# Altium footprint library ProjCLib.PcbLib: 31 footprints (part 2 of 2)
Each footprint in its own frame and in the unit in brackets; x right, y up, seen from the top. Pads: shape width x height; smd on the part's side, far side on the other; paste and mask are expansions set on the pad; w line width, h text height; cw(c..) or ccw(c..) is an arc to the next point about the centre after c.
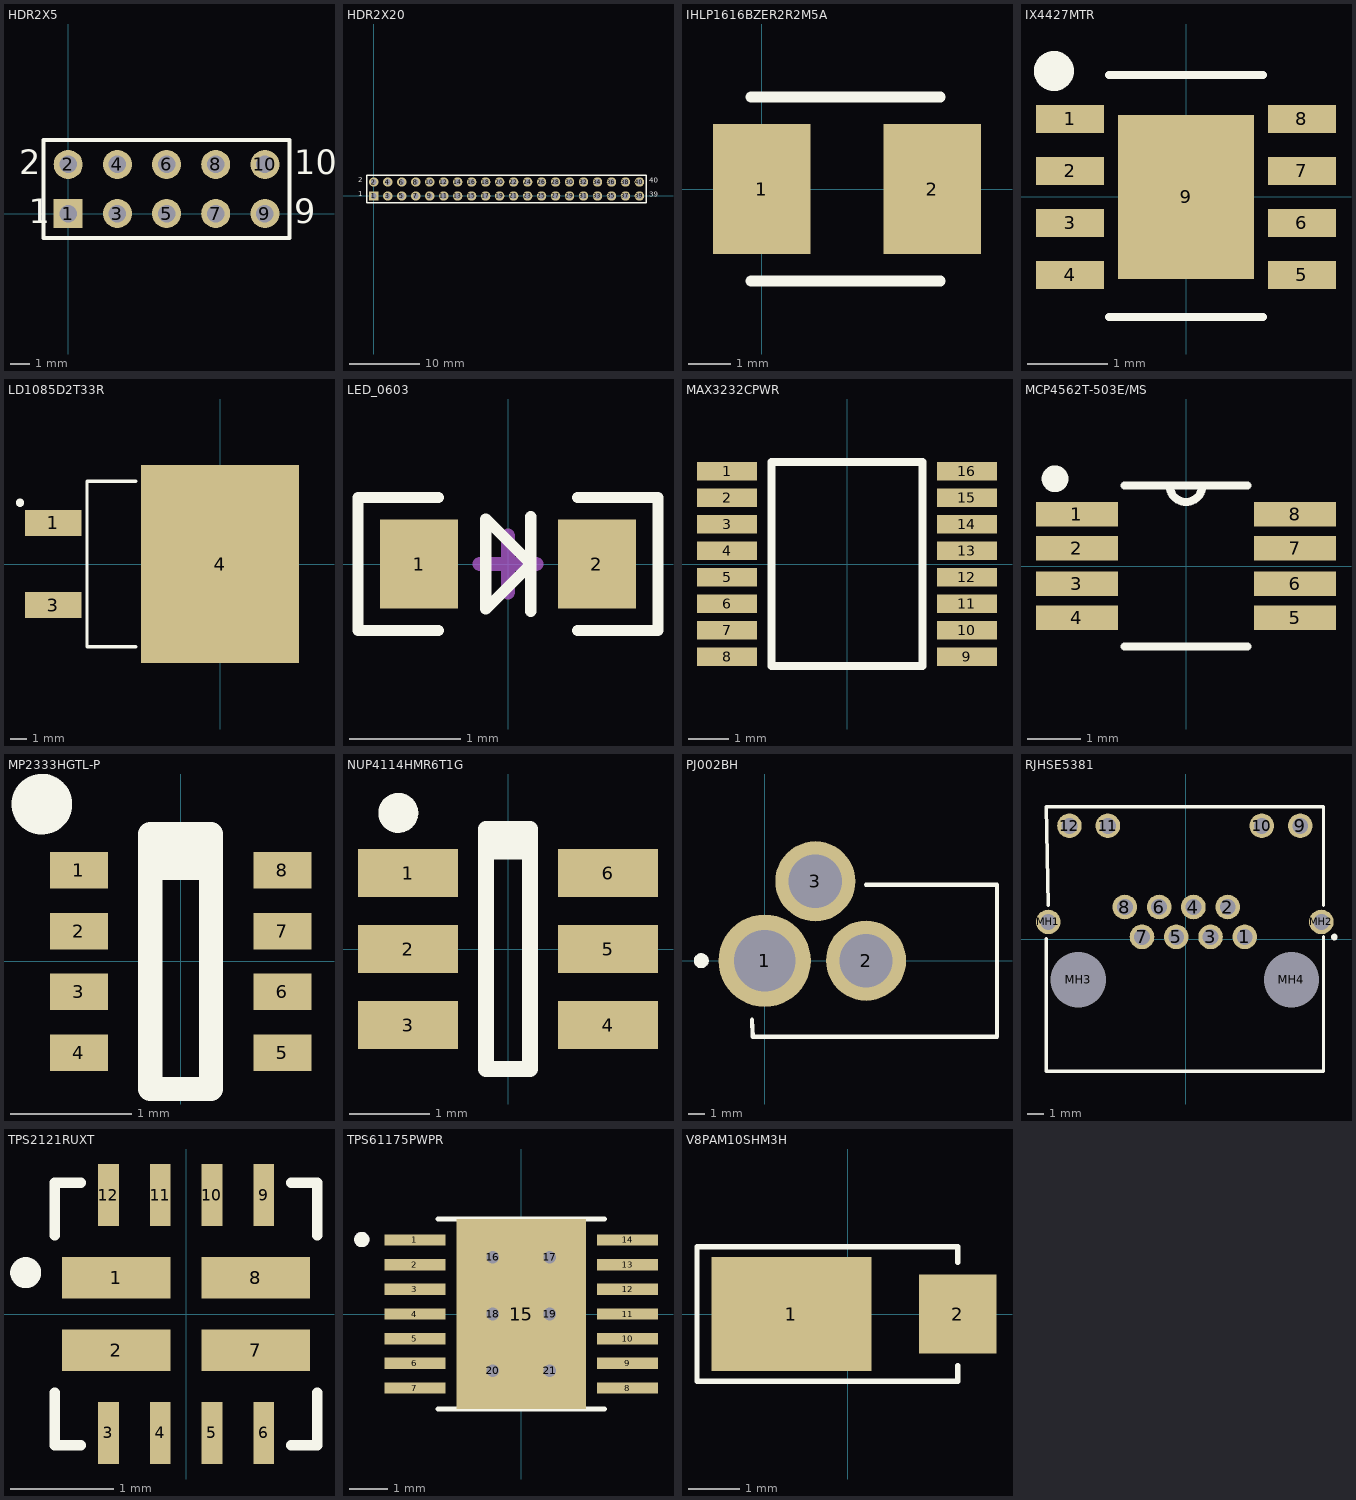
[diagram p1: the footprints below, top view; thin cyan lines are the x and y axes]

## HDR2X5 [mm] "Connector; Header; 5x2 Position"
pads (10):
  rect 1.5x1.5 hole 0.9: 1(0,0)
  round 1.5 hole 0.9: 2(0,2.54) 3(2.54,0) 4(2.54,2.54) 5(5.08,0) 6(5.08,2.54) 7(7.62,0) 8(7.62,2.54) 9(10.16,0) 10(10.16,2.54)
Top Overlay:
  lines w0.2: -1.27,-1.27 11.43,-1.27 11.43,3.81 -1.27,3.81 -1.27,-1.27
  text "10" at 11.684,2.032 h1.27
  text "9" at 11.684,-0.508 h1.27
  text "1" at -2.032,-0.508 h1.27
  text "2" at -2.54,2.032 h1.27

## HDR2X20 [mm] "Connector; Header; 20x2 Position"
pads (40):
  rect 1.35x1.35 hole 0.85: 1(0,0)
  round 1.35 hole 0.85: 2(0,2) 3(2,0) 4(2,2) 5(4,0) 6(4,2) 7(6,0) 8(6,2) 9(8,0) 10(8,2) 11(10,0) 12(10,2) 13(12,0) 14(12,2) 15(14,0) 16(14,2) 17(16,0) 18(16,2) 19(18,0) 20(18,2) 21(20,0) 22(20,2) 23(22,0) 24(22,2) 25(24,0) 26(24,2) 27(26,0) 28(26,2) 29(28,0) 30(28,2) 31(30,0) 32(30,2) 33(32,0) 34(32,2) 35(34,0) 36(34,2) 37(36,0) 38(36,2) 39(38,0) 40(38,2)
Top Overlay:
  lines w0.2: -1,-1 39,-1 39,3 -1,3 -1,-1
  text "1" at -2.257,-0.335 h1.27
  text "2" at -2.257,1.675 h1.27
  text "40" at 39.386,1.573 h1.27
  text "39" at 39.386,-0.388 h1.27

## IHLP1616BZER2R2M5A [mil]
pads (2):
  rect 90x120 smd: 1(0,0) 2(157.48,0)
Top Overlay:
  lines w10: -10,-85 165,-85 ; -10,85 165,85

## IX4427MTR [mm]
pads (9):
  rect 0.85x0.35 smd: 1(-1.45,0.975) 2(-1.45,0.325) 3(-1.45,-0.325) 4(-1.45,-0.975) 5(1.45,-0.975) 6(1.45,-0.325) 7(1.45,0.325) 8(1.45,0.975)
  rect 1.7x2.05 smd: 9(0,0)
Top Overlay:
  circle w0.25: c-1.651,1.575 r0.125
  lines w0.1: -0.965,-1.5 0.965,-1.5 ; -0.965,1.524 0.965,1.524
3D body "IX4427MTR.stp": height 0.9, standoff 0, extent -1.55,-1.5 1.55,1.5

## LD1085D2T33R [mm]
pads (3):
  rect 3.5x1.6 smd: 1(-10.275,2.54) 3(-10.275,-2.54)
  rect 9.75x12.2 smd: 4(0,0)
Top Overlay:
  lines w0.2: -5.2,-5.1 -8.2,-5.1 -8.2,5.1 -5.2,5.1
  lines w0.381: -12.391,3.778 cw(c-12.328,3.778) -12.266,3.778 cw(c-12.328,3.778) -12.391,3.778
3D body "User Library-TO252AA.step": height 2.3, standoff -0.01, extent -10.413,-3.251 -0.713,3.329

## LED_0603 [mm]
pads (2):
  rect 0.7x0.8 smd: 1(-0.8,0) 2(0.8,0)
Top Overlay:
  lines w0.1: -0.625,-0.6 -1.35,-0.6 -1.35,0.6 -0.625,0.6 ; -0.2,-0.405 0.205,0 -0.2,0.405 ; -0.2,-0.4 -0.2,0.4 ; 0.205,-0.425 0.205,0.425 ; 0.625,-0.6 1.35,-0.6 1.35,0.6 0.625,0.6
Mechanical 15:
  lines w0.127: -0.254,0 0.254,0 ; 0,-0.254 0,0.254
3D body "LED 0603 APT1608 WHITE.STEP": height 0.75, standoff 0, extent -0.8,-0.4 0.8,0.4

## MAX3232CPWR [mm]
pads (16):
  rect 1.475x0.45 smd: 1(-2.938,2.275) 2(-2.938,1.625) 3(-2.938,0.975) 4(-2.938,0.325) 5(-2.938,-0.325) 6(-2.938,-0.975) 7(-2.938,-1.625) 8(-2.938,-2.275) 9(2.938,-2.275) 10(2.938,-1.625) 11(2.938,-0.975) 12(2.938,-0.325) 13(2.938,0.325) 14(2.938,0.975) 15(2.938,1.625) 16(2.938,2.275)
Top Overlay:
  lines w0.2: -1.85,-2.5 -1.85,2.5 1.85,2.5 1.85,-2.5 -1.85,-2.5
3D body "MAX3232CPWR.stp": height 1.2, standoff 0, extent -3.2,-2.5 3.2,2.5

## MCP4562T-503E/MS [mil]
pads (8):
  rect 60x18 smd: 1(-80,38) 2(-80,13) 3(-80,-13) 4(-80,-38) 5(80,-38) 6(80,-13) 7(80,13) 8(80,38)
Top Overlay:
  circle w9.84: c-96,64 r4.92
  lines w6: -45,-59 45,-59 ; -45,59 -12,59 ; 45,59 12,59 ; -12,59 ccw(c0,59) 12,59 ; -12,59 12,59
3D body "User Library-EMSOP-8 Natl Semi MUY08A.step": height 43.23, standoff -0.08, extent -99.36,-59.11 97.49,59

## MP2333HGTL-P [mm]
pads (8):
  rect 0.475x0.3 smd: 1(-0.838,0.75) 2(-0.838,0.25) 3(-0.838,-0.25) 4(-0.838,-0.75) 5(0.838,-0.75) 6(0.838,-0.25) 7(0.838,0.25) 8(0.838,0.75)
Top Overlay:
  circle w0.25: c-1.143,1.295 r0.125
  lines w0.2: -0.25,0.771 0.25,0.771 ; -0.25,0.898 0.25,0.898 ; -0.25,-1.05 -0.25,1.05 0.25,1.05 0.25,-1.05 -0.25,-1.05
3D body "MP2333HGTL.stp": height 0.6, standoff 0, extent -0.8,-1.05 0.8,1.05

## NUP4114HMR6T1G [mm]
pads (6):
  rect 1.25x0.6 smd: 1(-1.25,0.95) 2(-1.25,0) 3(-1.25,-0.95) 4(1.25,-0.95) 5(1.25,0) 6(1.25,0.95)
Top Overlay:
  circle w0.25: c-1.372,1.702 r0.125
  lines w0.2: -0.275,1.221 0.275,1.221 ; -0.275,1.348 0.275,1.348 ; -0.275,-1.5 0.275,-1.5 0.275,1.5 -0.275,1.5 -0.275,-1.5
3D body "NUP4114HMR6T1G.stp": height 1.1, standoff 0, extent -1.375,-1.5 1.375,1.5

## PJ002BH [mm]
pads (3):
  round 5.46 hole 3.64: 1(0,0)
  round 4.74 hole 3.16: 2(6,0) 3(3,4.7)
Top Overlay:
  circle w0.381: c-3.75,0 r0.254
  lines w0.2: -3.8,0 ccw(c-3.75,0) -3.7,0 ccw(c-3.75,0) -3.8,0
  lines w0.254: -0.75,-3.5 -0.7,-4.5 13.75,-4.5 13.75,4.5 6,4.5
3D body "CUI_DEVICES_PJ-002BH.step": height 11.36, standoff -3.14, extent -0.735,-4.573 13.665,4.827

## RJHSE5381 [mm]
pads (16):
  round 1.462 hole 0.94: 1(3.501,0.125) 2(2.481,1.905) 3(1.461,0.125) 4(0.441,1.905) 5(-0.579,0.125) 6(-1.599,1.905) 7(-2.619,0.125) 8(-3.639,1.905) 9(6.801,6.735) 10(4.511,6.735) 11(-4.649,6.735) 12(-6.939,6.735) MH1(-8.199,1.015) MH2(8.061,1.015)
  round 1.65 hole 3.3 unplated: MH3(-6.419,-2.415) MH4(6.281,-2.415)
Top Overlay:
  lines w0.2: 8.831,0.015 cw(c8.831,0.115) 8.831,0.215 cw(c8.831,0.115) 8.831,0.015
  lines w0.203: -8.324,0.015 -8.324,-7.875 8.186,-7.875 8.186,0.125 ; -8.199,2.015 -8.324,7.875 8.186,7.875 8.186,2.015
3D body "RJHSE5381.stp": height 13.1, standoff -5, extent -8.566,-7.875 8.431,7.875

## TPS2121RUXT [mm]
pads (12):
  rect 1.05x0.4 smd: 1(-0.675,0.35) 2(-0.675,-0.35) 7(0.675,-0.35) 8(0.675,0.35)
  rect 0.2x0.6 smd: 3(-0.75,-1.15) 4(-0.25,-1.15) 5(0.25,-1.15) 6(0.75,-1.15) 9(0.75,1.15) 10(0.25,1.15) 11(-0.25,1.15) 12(-0.75,1.15)
Top Overlay:
  lines w0.102: -1.27,-0.762 -1.27,-1.27 -1.016,-1.27 ; -1.27,0.762 -1.27,1.27 -1.016,1.27 ; 1.016,-1.27 1.27,-1.27 1.27,-0.762 ; 1.016,1.27 1.27,1.27 1.27,0.762
  lines w0.2: -1.6,0.4 ccw(c-1.55,0.4) -1.5,0.4 ccw(c-1.55,0.4) -1.6,0.4
3D body "TPS2121RUXT.stp": height 1.1, standoff 0, extent -1,-1.25 1,1.25

## TPS61175PWPR [mm]
pads (21):
  rect 1.6x0.3 smd paste-2: 1(-2.8,1.95) 2(-2.8,1.3) 3(-2.8,0.65) 4(-2.8,0) 5(-2.8,-0.65) 6(-2.8,-1.3) 7(-2.8,-1.95) 8(2.8,-1.95) 9(2.8,-1.3) 10(2.8,-0.65) 11(2.8,0) 12(2.8,0.65) 13(2.8,1.3) 14(2.8,1.95)
  rect 3.4x5 smd paste-3 mask+0: 15(0,0)
  round 0.44 hole 0.33 mask+0: 16(-0.75,1.5) 17(0.75,1.5) 20(-0.75,-1.5) 21(0.75,-1.5)
  round 0.44 hole 0.33: 18(-0.75,0) 19(0.75,0)
Top Overlay:
  circle w0.2: c-4.2,1.96 r0.1
  lines w0.127: -2.2,-2.5 2.2,-2.5 ; -2.2,2.5 2.2,2.5
Top Paste:
  region: 3.575,-0.125 2.025,-0.125 2.025,0.125 3.575,0.125
  region: 3.575,-0.775 2.025,-0.775 2.025,-0.525 3.575,-0.525
  region: 3.575,-1.425 2.025,-1.425 2.025,-1.175 3.575,-1.175
  region: 3.575,-2.075 2.025,-2.075 2.025,-1.825 3.575,-1.825
  region: 3.575,0.525 2.025,0.525 2.025,0.775 3.575,0.775
  region: 3.575,1.175 2.025,1.175 2.025,1.425 3.575,1.425
  region: 3.575,1.825 2.025,1.825 2.025,2.075 3.575,2.075
  region: -2.025,-0.125 -3.575,-0.125 -3.575,0.125 -2.025,0.125
  region: -2.025,-0.775 -3.575,-0.775 -3.575,-0.525 -2.025,-0.525
  region: -2.025,-1.425 -3.575,-1.425 -3.575,-1.175 -2.025,-1.175
  region: -2.025,-2.075 -3.575,-2.075 -3.575,-1.825 -2.025,-1.825
  region: -2.025,0.525 -3.575,0.525 -3.575,0.775 -2.025,0.775
  region: -2.025,1.175 -3.575,1.175 -3.575,1.425 -2.025,1.425
  region: -2.025,1.825 -3.575,1.825 -3.575,2.075 -2.025,2.075
  region: 1.23,-1.155 -1.23,-1.155 -1.23,1.155 1.23,1.155
Top Solder:
  region: 1.23,-1.155 -1.23,-1.155 -1.23,1.155 1.23,1.155
Mechanical 13:
  circle w0.2: c-4.2,1.96 r0.1
3D body "TPS61175PWPR--3DModel-STEP-56544.STEP": height 1.2, standoff 0, extent -3.2,-2.5 3.2,2.5

## V8PAM10SHM3H [mm]
pads (2):
  rect 3.1x2.2 smd: 1(-1.095,0)
  rect 1.5x1.52 smd: 2(2.125,0)
Top Overlay:
  lines w0.1: -2.921,1.27 -2.921,-1.3 2.125,-1.3 2.125,-1 ; -2.921,1.3 2.125,1.3 2.125,1
3D body "V8PAM10S-M3_H.stp": height 1.1, standoff 0, extent -2.425,-1.3 2.725,1.3